# Altium integrated library M20-9770346-4.IntLib: 1 symbol
Pins are listed as number, name and electrical type; pins without a type are passive.

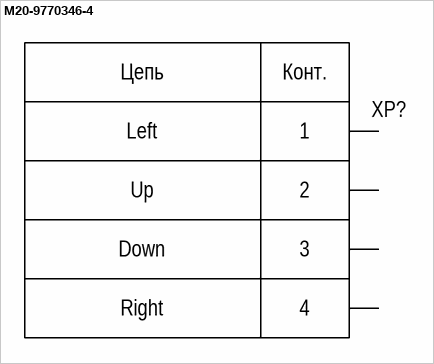
[diagram p0: symbol M20-9770346-4]

## M20-9770346-4
designator XP?  (value not drawn)
Header 2.54mm
footprint HDRV4W64P254_1X4_1016X254X834P (Connector, 4-Leads, Body 10.16x2.54mm, IPC Medium Density)
pins: 1 Left, 2 Up, 3 Down, 4 Right
4 alternate drawings of the same symbol
text: Цепь; Конт.